# Altium integrated library ENCE461_18_3.IntLib: 18 symbols
Pins are listed as number, name and electrical type; pins without a type are passive.

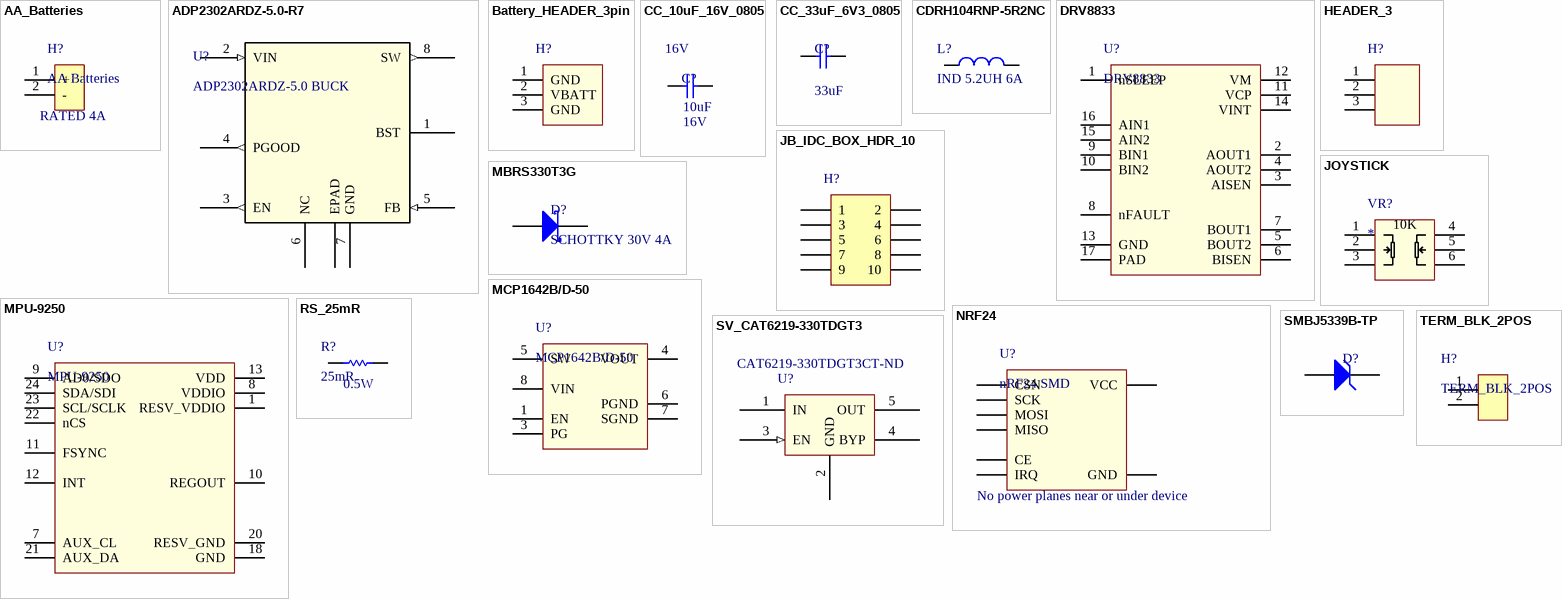
[diagram p0: symbols AA_Batteries to TERM_BLK_2POS]

## AA_Batteries
designator H?, comment AA Batteries  Pin Rating: RATED 4A
AA Battery Connector
footprint MOLEX_KK_2_HDR
pins: 1 +, 2 -

## ADP2302ARDZ-5.0-R7
designator U?, comment ADP2302ARDZ-5.0 BUCK
IC REG BUCK 5V 2A 8SOIC; Manufacturer_Part_Number: ADP2302ARDZ-5.0-R7; Vendor: Analog Devices Inc; Frequency - Switching: 700kHz; Output Type: Fixed; Voltage - Input (Max): 20V; Type: DEV; Value: Value; Supplier 1: Digi-Key; Current - Output: 2A; Voltage - Output (Min/Fixed): 5V; Supplier Part Number 1: ADP2302ARDZ-5.0-R7CT-ND
footprint RD_8_1
footprint RD_8_1-L
footprint RD_8_1-M
pins: 1 BST, 2 VIN (in), 3 EN (out), 4 PGOOD (out), 5 FB (in), 6 NC, 7 GND (power), 8 SW (out), EPAD

## Battery_HEADER_3pin
designator H?  (value not drawn)
3Pin Header 2.54mm spacing
footprint BATT_HEADER_3POS
pins: 1 GND, 2 VBATT, 3 GND

## CC_10uF_16V_0805
designator C?, comment Voltage - Rated: 16V  (hidden comment: 10uF)
CAP CER 10uF X5R 16V 0805; Manufacturer: Samsung Electro-Mechanics; Manufacturer Part Number: CL21A106KOQNNWE; Note: Footprint corresponds to dimensions for bulk cassette packaging. This case size has tightened tolerances.; Tolerance: ±10%; Notification: Current market demand for these product types have resulted in fluctuating and extending lead times. Lead times may differ.; PackageReference: 0805; Code_IPC: 2012[0805]; Supplier 1: Digi-Key; RoHS: RoHS Compliant; Category: Capacitors; Stock 1: 20000; Pricing 1: 1=0.35, 10=0.25, 100=0.1178, 500=0.08254, 1000=0.06831 (NZD); Packaging: Cut Tape (CT); Part Status: Active; Temperature Coefficient: X5R; Operating Temperature: -55°C ~ 85°C; Features: -; Ratings: -; Applications: General Purpose; Mounting Type: Surface Mount, MLCC; Package / Case: 0805 (2012 Metric); Size / Dimension: 0.079" L x 0.049" W (2.00mm x 1.25mm); Height - Seated (Max): -; Thickness (Max): 0.055" (1.40mm); Lead Spacing: -; Lead Style: -; ComponentLink1URL: http://www.samsungsem.com/kr/support/product-search/mlcc/CL21A106KOQNNWE.jsp; ComponentLink1Description: http://www.samsungsem.com/kr/support/product-search/mlcc/CL21A106KOQNNWE.jsp; Supplier Part Number 1: 1276-2894-1-ND; Value: 10uF; Max Voltage: 16V
simulation model CAP (Capacitor)
signal-integrity model C0805
footprint CAPC2012L (Chip Capacitor, Body 2.0x1.3mm, IPC High Density)
footprint CAPC2012M (Chip Capacitor, Body 2.0x1.3mm, IPC Low Density)
footprint CAPC2012N (Chip Capacitor, Body 2.0x1.3mm, IPC Medium Density)
pins: 1, 2

## CC_33uF_6V3_0805
designator C?, comment 33uF
CAP CER 33uF X5R 6V3 0805; Manufacturer: TDK Corporation; Manufacturer Part Number: C2012X5R0J336M125AC; Tolerance: ±20%; Voltage - Rated: 6.3V; Notification: Current market demand for these product types have resulted in fluctuating and extending lead times. Lead times may differ.; Supplier 1: Digi-Key; RoHS: RoHS Compliant; Category: Capacitors; Stock 1: 20000; Pricing 1: 1=1.65, 10=1.262, 100=0.9023, 500=0.6985, 1000=0.60149 (NZD); Packaging: Cut Tape (CT); Part Status: Active; Temperature Coefficient: X5R; Operating Temperature: -55°C ~ 85°C; Features: Low ESL; Ratings: -; Applications: General Purpose; Failure Rate: -; Mounting Type: Surface Mount, MLCC; Package / Case: 0805 (2012 Metric); Size / Dimension: 0.079" L x 0.049" W (2.00mm x 1.25mm); Height - Seated (Max): -; Thickness (Max): 0.057" (1.45mm); Lead Spacing: -; Lead Style: -; ComponentLink1URL: https://product.tdk.com/info/en/catalog/datasheets/mlcc_commercial_general_en.pdf; ComponentLink1Description: https://product.tdk.com/info/en/catalog/datasheets/mlcc_commercial_general_en.pdf; Supplier Part Number 1: 445-5986-1-ND; Value: 33uF
simulation model CAP (Capacitor)
signal-integrity model C0805
footprint CAPC2012L (Chip Capacitor, Body 2.0x1.3mm, IPC High Density)
footprint CAPC2012M (Chip Capacitor, Body 2.0x1.3mm, IPC Low Density)
footprint CAPC2012N (Chip Capacitor, Body 2.0x1.3mm, IPC Medium Density)
pins: 1, 2

## CDRH104RNP-5R2NC
designator L?, comment IND 5.2UH 6A
FIXED IND 5.2UH 6A 22 MOHM SMD; Manufacturer: Sumida America Components Inc.; Manufacturer Part Number: CDRH104RNP-5R2NC; Material - Core: Ferrite; Tolerance: ±30%; Current - Saturation: 5.6A; Shielding: Shielded; DC Resistance (DCR): 22 mOhm Max; Supplier 1: Digi-Key; RoHS: RoHS Compliant; Category: Inductors, Coils, Chokes; Stock 1: 3849; Pricing 1: 1=2.9, 10=2.678, 100=1.8743, 500=1.5173 (NZD); Packaging: Cut Tape (CT); Part Status: Active; Type: -; Q @ Freq: -; Frequency - Self Resonant: -; Ratings: -; Operating Temperature: -40°C ~ 100°C; Mounting Type: Surface Mount; Package / Case: Nonstandard; Supplier Device Package: -; Size / Dimension: 0.402" L x 0.394" W (10.20mm x 10.00mm); Height - Seated (Max): 0.157" (4.00mm); ComponentLink1URL: http://products.sumida.com/products/pdf/CDRH104R.pdf; ComponentLink1Description: http://products.sumida.com/products/pdf/CDRH104R.pdf; Supplier Part Number 1: 308-2280-1-ND
footprint INDUCTOR5u2
pins: 1, 2

## DRV8833
designator U?
Dual H-Bridge Motor Driver 1.5A
footprint HTSOP16
pins: 1 nSLEEP, 2 AOUT1, 3 AISEN, 4 AOUT2, 5 BOUT2, 6 BISEN, 7 BOUT1, 8 nFAULT, 9 BIN1, 10 BIN2, 11 VCP, 12 VM, 13 GND, 14 VINT, 15 AIN2, 16 AIN1, 17 PAD

## HEADER_3
designator H?  (value not drawn)
3Pin Header 2.54mm spacing
footprint HEADER_3POS
pins: 1, 2, 3

## JB_IDC_BOX_HDR_10
designator H?  (value not drawn)
IDC BOX HEADER 2.54mm 10POS SMT; Manufacturer: CNC Tech; Manufacturer Part Number: 3020-10-0300-00; Connector Type: Header, Shrouded; Number of Positions: 10; Pitch: 0.100" (2.54mm); Supplier 1: Digi-Key; Contact Type: Male Pin; Number of Rows: 2; Row Spacing: 0.100" (2.54mm); Supplier: Digi-Key; Supplier Part Number 1: 1175-1621-ND; Supplier Part Number: 1175-1621-ND
footprint 3020-10-0300-00 (IDC BOX HEADER 2.54mm 10POS)
pins: 1, 2, 3, 4, 5, 6, 7, 8, 9, 10

## JOYSTICK
designator VR?
Joystick 2 x 10k linear
footprint JOYSTICK
pins: 1, 2, 3, 4 1', 5 2', 6 3'
text: 10K

## MBRS330T3G
designator D?, comment SCHOTTKY 30V 4A
DIODE SCHOTTKY 30V 4A SMC; Manufacturer: ON Semiconductor; Manufacturer Part Number: MBRS330T3G; Speed: Fast Recovery =< 500ns, > 200mA (Io); Supplier 1: Digi-Key; RoHS: RoHS Compliant; Category: Discrete Semiconductor Products; Stock 1: 8919; Pricing 1: 1=0.93, 10=0.79, 100=0.5902, 500=0.46368, 1000=0.35829 (NZD); Packaging: Cut Tape (CT); Part Status: Active; Diode Type: Schottky; Current - Average Rectified (Io): 4A; Capacitance @ Vr, F: -; Mounting Type: Surface Mount; Package / Case: DO-214AB, SMC; Supplier Device Package: SMC; Operating Temperature - Junction: -65°C ~ 150°C; Base Part Number: MBRS330; ComponentLink1URL: http://www.onsemi.com/pub/Collateral/MBRS340T3-D.PDF; ComponentLink1Description: http://www.onsemi.com/pub/Collateral/MBRS340T3-D.PDF; Supplier Part Number 1: MBRS330T3GOSCT-ND
footprint SMC (DO-214-AB/SMC; 2 C-Bend Leads; Body 7.9 x 5.9 mm, inc. leads (LxW))
pins: 1 A, 2 K

## MCP1642B/D-50
designator U?
5V Boost Converter
footprint MSOP8
pins: 1 EN, 3 PG, 4 VOUT, 5 SW, 6 PGND, 7 SGND, 8 VIN

## MPU-9250
designator U?
9 axis IMU
footprint Quad24
pins: 1 RESV_VDDIO, 7 AUX_CL, 8 VDDIO, 9 AD0/SDO, 10 REGOUT, 11 FSYNC, 12 INT, 13 VDD, 18 GND, 20 RESV_GND, 21 AUX_DA, 22 nCS, 23 SCL/SCLK, 24 SDA/SDI

## NRF24
designator U?, comment nRF24 SMD  Warning: No power planes near or under device
nRF24 SMD Module
footprint NRF24
pins: 1 VCC, 2 GND, 3 CE, 4 CSN, 5 SCK, 6 MOSI, 7 MISO, 8 IRQ

## RS_25mR
designator R?, comment 25mR  Power: 0.5W
0.5W 1206 25mR Resistor
footprint RESC3216N (Chip Resistor, Body 3.2x1.6mm, IPC Medium Density)
pins: 1, 2

## SMBJ5339B-TP
designator D?, comment DIODE ZENER 5.6V  (value not drawn)
DIODE ZENER 5.6V 5W DO214AA; Manufacturer: Micro Commercial Co; Manufacturer Part Number: SMBJ5339B-TP; Tolerance: ±5%; Supplier 1: Digi-Key; RoHS: RoHS Compliant; Category: Discrete Semiconductor Products; Stock 1: 85990; Pricing 1: 1=1.47, 10=1.277, 25=1.1312, 100=0.9853, 250=0.85764, 500=0.72988, 1000=0.58391 (NZD); Packaging: Cut Tape (CT); Part Status: Active; Operating Temperature: -55°C ~ 150°C; Mounting Type: Surface Mount; Package / Case: DO-214AA, SMB; Supplier Device Package: DO-214AA (SMB); Base Part Number: SMBJ5339; ComponentLink1URL: http://www.mccsemi.com/up_pdf/SMBJ5338B-SMBJ5388B(SMB).pdf; ComponentLink1Description: http://www.mccsemi.com/up_pdf/SMBJ5338B-SMBJ5388B(SMB).pdf; Supplier Part Number 1: SMBJ5339B-TPMSCT-ND
footprint DO-214AA_SCL (Molded Diode, 2-Leads, Body 4.40x3.62mm, IPC Medium Density)
pins: 1 K, 2 A

## SV_CAT6219-330TDGT3
designator U?, comment Supplier Part Number: CAT6219-330TDGT3CT-ND  (hidden comment: CAT6219-330TDGT3)
IC REG LIN 3.3V 500MA TSOT23-5; Voltage - Input (Max): 5.5V; Voltage Dropout (Max): 0.5V @ 500mA; Manufacturer Part Number: CAT6219-330TDGT3; Base Part Number: CAT6219; Current - Output: 500mA; Package / Case: SOT-23-5 Thin, TSOT-23-5; Supplier: Digi-Key; Supplier Device Package: TSOT-23-5; Voltage - Output (Min/Fixed): 3.3V; ComponentLink1URL: http://www.onsemi.com/pub/Collateral/CAT6219-D.PDF; ComponentLink1Description: http://www.onsemi.com/pub/Collateral/CAT6219-D.PDF; Supplier 1: Digi-Key
footprint SOT95P280X145-5N (SOT23, 5-Leads, Body 2.90x2.80mm, Pitch 0.95mm, IPC Medium Density)
pins: 1 IN (power), 2 GND (power), 3 EN (in), 4 BYP, 5 OUT (power)

## TERM_BLK_2POS
designator H?
2 Position Terminal Block 7.62mm spacing
footprint TERM_BLK_2POS
pins: 1, 2